# EAGLE library part DAC8571IDGKR (library Texas Instruments DAC)
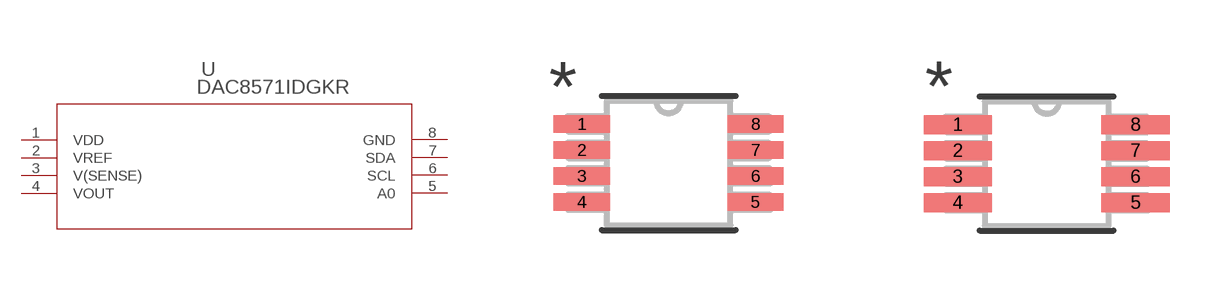
[diagram p0: symbol with the pads of DGK8; footprints DGK8, DGK8-M]

Designator prefix U

## DAC8571IDGKR (MANUFACTURER_PART_NUMBER: DAC8571IDGKR; VENDOR: Texas Instruments)  [DGK8]
1  VDD  pwr
2  VREF  pwr
3  V(SENSE)  pas
4  VOUT  pas
5  A0  pas
6  SCL  in
7  SDA
8  GND  pwr

## DAC8571IDGKRDGK8-M (MANUFACTURER_PART_NUMBER: DAC8571IDGKR; VENDOR: Texas Instruments)  [DGK8-M]
Pads as for DGK8

## DAC8571IDGKRDGK8-L (MANUFACTURER_PART_NUMBER: DAC8571IDGKR; VENDOR: Texas Instruments)  [DGK8-L]
Pads as for DGK8

## Footprint DGK8 (pad centres in mm)
smd 1.411 x 0.441: 1 -2.172,0.975; 2 -2.172,0.325; 3 -2.172,-0.325; 4 -2.172,-0.975; 5 2.172,-0.975; 6 2.172,-0.325; 7 2.172,0.325; 8 2.172,0.975

## Footprint DGK8-M (pad centres in mm)
smd 1.711 x 0.481: 1 -2.222,0.975; 2 -2.222,0.325; 3 -2.222,-0.325; 4 -2.222,-0.975; 5 2.222,-0.975; 6 2.222,-0.325; 7 2.222,0.325; 8 2.222,0.975

## Footprint DGK8-L (pad centres in mm)
smd 1.111 x 0.401: 1 -2.122,0.975; 2 -2.122,0.325; 3 -2.122,-0.325; 4 -2.122,-0.975; 5 2.122,-0.975; 6 2.122,-0.325; 7 2.122,0.325; 8 2.122,0.975